# EAGLE library part ESP32-PICO-D4 (library nixiemisc)
The ESP32-PICO-D4 is a System-in-Package (SIP) module that is based on ESP32, providing complete Wi-Fi and Bluetooth functionalities. The module has a size as small as 7.0±0.1 mm×7.0±0.1 mm×0.94±0.1 mm, thus requiring minimal PCB area. The module integrates a 4-MB SPI flash
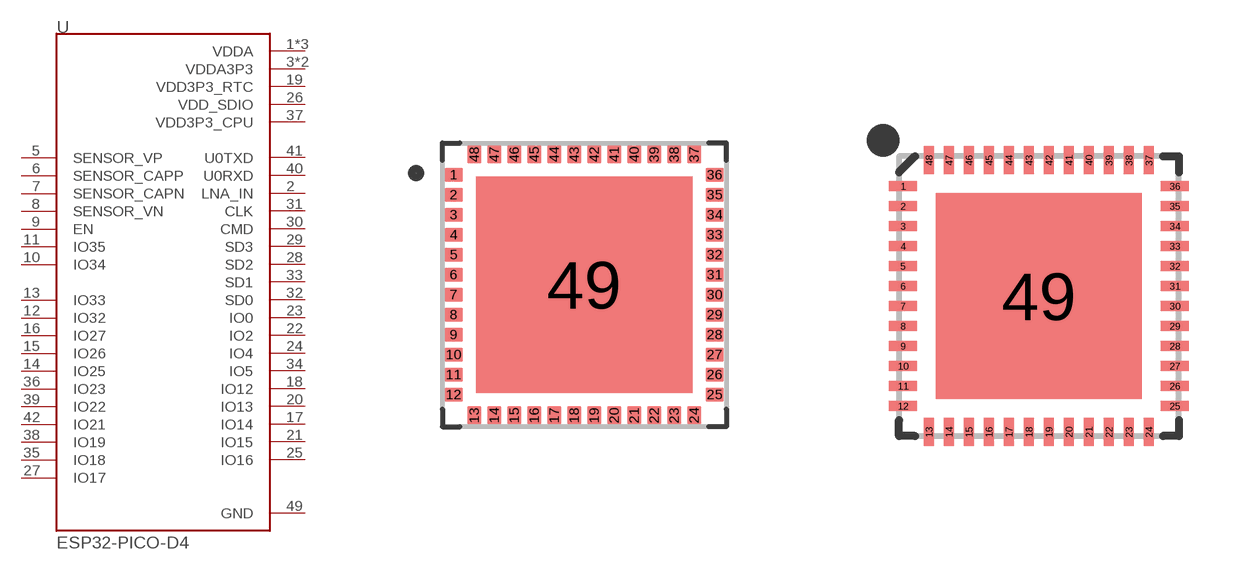
[diagram p22: symbol with the pads of PQFN50P700X700X104-49N; footprints PQFN50P700X700X104-49N, QFN-48]

Designator prefix U

## ESP32-PICO-D4 (AVAILABILITY: Unavailable; DESCRIPTION: WIFi/Bluetooth SIP; MF: Espressif Systems; MP: ESP32-PICO-D4; PACKAGE: SMD-48 Espressif Systems; PRICE: None)  [PQFN50P700X700X104-49N]
1  VDDA  pwr
2  LNA_IN
3  VDDA3P3  pwr
4  VDDA3P3  pwr
5  SENSOR_VP  in
6  SENSOR_CAPP  in
7  SENSOR_CAPN  in
8  SENSOR_VN  in
9  EN  in
10  IO34  in
11  IO35  in
12  IO32
13  IO33
14  IO25
15  IO26
16  IO27
17  IO14
18  IO12
19  VDD3P3_RTC  pwr
20  IO13
21  IO15
22  IO2
23  IO0
24  IO4
25  IO16
26  VDD_SDIO  pwr
27  IO17
28  SD2
29  SD3
30  CMD
31  CLK
32  SD0
33  SD1
34  IO5
35  IO18
36  IO23
37  VDD3P3_CPU  pwr
38  IO19
39  IO22
40  U0RXD
41  U0TXD
42  IO21
43  VDDA  pwr
46  VDDA  pwr
49  GND  pwr

## ESP32-PICO-D4QFN-48  [QFN-48]
Pads as for PQFN50P700X700X104-49N

## ESP32-PICO-D4QFN-48-7X7  [QFN48_7X7]
Pads as for PQFN50P700X700X104-49N

## Footprint PQFN50P700X700X104-49N (pad centres in mm)
smd 0.45 x 0.35: 1 -3.265,2.75; 2 -3.265,2.25; 3 -3.265,1.75; 4 -3.265,1.25; 5 -3.265,0.75; 6 -3.265,0.25; 7 -3.265,-0.25; 8 -3.265,-0.75; 9 -3.265,-1.25; 10 -3.265,-1.75; 11 -3.265,-2.25; 12 -3.265,-2.75; 25 3.265,-2.75; 26 3.265,-2.25; 27 3.265,-1.75; 28 3.265,-1.25; 29 3.265,-0.75; 30 3.265,-0.25; 31 3.265,0.25; 32 3.265,0.75; 33 3.265,1.25; 34 3.265,1.75; 35 3.265,2.25; 36 3.265,2.75
smd 0.35 x 0.45: 13 -2.75,-3.265; 14 -2.25,-3.265; 15 -1.75,-3.265; 16 -1.25,-3.265; 17 -0.75,-3.265; 18 -0.25,-3.265; 19 0.25,-3.265; 20 0.75,-3.265; 21 1.25,-3.265; 22 1.75,-3.265; 23 2.25,-3.265; 24 2.75,-3.265; 37 2.75,3.265; 38 2.25,3.265; 39 1.75,3.265; 40 1.25,3.265; 41 0.75,3.265; 42 0.25,3.265; 43 -0.25,3.265; 44 -0.75,3.265; 45 -1.25,3.265; 46 -1.75,3.265; 47 -2.25,3.265; 48 -2.75,3.265
smd 5.4 x 5.4: 49 0,0

## Footprint QFN-48 (pad centres in mm)
48-pin QFN (7x7mm, 0.5mm pitch) Used on: ATSAMD21G
smd 0.7 x 0.25: 1 -3.4,2.75; 2 -3.4,2.25; 3 -3.4,1.75; 4 -3.4,1.25; 5 -3.4,0.75; 6 -3.4,0.25; 7 -3.4,-0.25; 8 -3.4,-0.75; 9 -3.4,-1.25; 10 -3.4,-1.75; 11 -3.4,-2.25; 12 -3.4,-2.75; 25 3.4,-2.75; 26 3.4,-2.25; 27 3.4,-1.75; 28 3.4,-1.25; 29 3.4,-0.75; 30 3.4,-0.25; 31 3.4,0.25; 32 3.4,0.75; 33 3.4,1.25; 34 3.4,1.75; 35 3.4,2.25; 36 3.4,2.75
smd 0.25 x 0.7: 13 -2.75,-3.4; 14 -2.25,-3.4; 15 -1.75,-3.4; 16 -1.25,-3.4; 17 -0.75,-3.4; 18 -0.25,-3.4; 19 0.25,-3.4; 20 0.75,-3.4; 21 1.25,-3.4; 22 1.75,-3.4; 23 2.25,-3.4; 24 2.75,-3.4; 37 2.75,3.4; 38 2.25,3.4; 39 1.75,3.4; 40 1.25,3.4; 41 0.75,3.4; 42 0.25,3.4; 43 -0.25,3.4; 44 -0.75,3.4; 45 -1.25,3.4; 46 -1.75,3.4; 47 -2.25,3.4; 48 -2.75,3.4
smd 5.15 x 5.15: 49 0,0

## Footprint QFN48_7X7 (pad centres in mm)
smd 1 x 0.28: 1 -3.575,2.75; 2 -3.575,2.25; 3 -3.575,1.75; 4 -3.575,1.25; 5 -3.575,0.75; 6 -3.575,0.25; 7 -3.575,-0.25; 8 -3.575,-0.75; 9 -3.575,-1.25; 10 -3.575,-1.75; 11 -3.575,-2.25; 12 -3.575,-2.75; 25 3.575,-2.75; 26 3.575,-2.25; 27 3.575,-1.75; 28 3.575,-1.25; 29 3.575,-0.75; 30 3.575,-0.25; 31 3.575,0.25; 32 3.575,0.75; 33 3.575,1.25; 34 3.575,1.75; 35 3.575,2.25; 36 3.575,2.75
smd 0.28 x 1: 13 -2.75,-3.575; 14 -2.25,-3.575; 15 -1.75,-3.575; 16 -1.25,-3.575; 17 -0.75,-3.575; 18 -0.25,-3.575; 19 0.25,-3.575; 20 0.75,-3.575; 21 1.25,-3.575; 22 1.75,-3.575; 23 2.25,-3.575; 24 2.75,-3.575; 37 2.75,3.575; 38 2.25,3.575; 39 1.75,3.575; 40 1.25,3.575; 41 0.75,3.575; 42 0.25,3.575; 43 -0.25,3.575; 44 -0.75,3.575; 45 -1.25,3.575; 46 -1.75,3.575; 47 -2.25,3.575; 48 -2.75,3.575
smd 5.2 x 5.2: 49 0,0